# Altium schematic symbol library SM74611 Smart Bypass Diode - TI.SchLib: 1 symbol
Pins are listed as number, name and electrical type; pins without a type are passive.

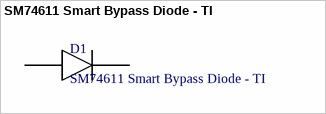
[diagram p0: symbol SM74611 Smart Bypass Diode - TI]

## SM74611 Smart Bypass Diode - TI
designator D1
footprint SM74611 Smart Bypass Diode - TI (Footprint not found)
pins: 1, 3, 4